# EAGLE library part FRDM (library lib_stankus)
FRDM
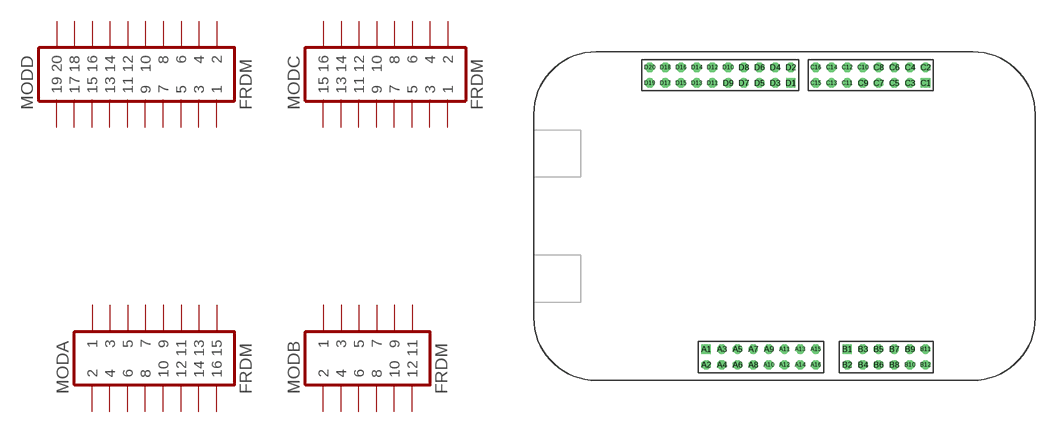
[diagram p111: symbol with the pads of FRDM; footprint FRDM]

Designator prefix MOD; gates A=FRDM_A B=FRDM_B C=FRDM_C D=FRDM_D

## FRDM  [FRDM]
A1  A:1  pas
A2  A:2  pas
A3  A:3  pas
A4  A:4  pas
A5  A:5  pas
A6  A:6  pas
A7  A:7  pas
A8  A:8  pas
A9  A:9  pas
A10  A:10  pas
A11  A:11  pas
A12  A:12  pas
A13  A:13  pas
A14  A:14  pas
A15  A:15  pas
A16  A:16  pas
B1  B:1  pas
B2  B:2  pas
B3  B:3  pas
B4  B:4  pas
B5  B:5  pas
B6  B:6  pas
B7  B:7  pas
B8  B:8  pas
B9  B:9  pas
B10  B:10  pas
B11  B:11  pas
B12  B:12  pas
C1  C:1  pas
C2  C:2  pas
C3  C:3  pas
C4  C:4  pas
C5  C:5  pas
C6  C:6  pas
C7  C:7  pas
C8  C:8  pas
C9  C:9  pas
C10  C:10  pas
C11  C:11  pas
C12  C:12  pas
C13  C:13  pas
C14  C:14  pas
C15  C:15  pas
C16  C:16  pas
D1  D:1  pas
D2  D:2  pas
D3  D:3  pas
D4  D:4  pas
D5  D:5  pas
D6  D:6  pas
D7  D:7  pas
D8  D:8  pas
D9  D:9  pas
D10  D:10  pas
D11  D:11  pas
D12  D:12  pas
D13  D:13  pas
D14  D:14  pas
D15  D:15  pas
D16  D:16  pas
D17  D:17  pas
D18  D:18  pas
D19  D:19  pas
D20  D:20  pas

## Footprint FRDM (pad centres in mm)
FRDM
drill 1 square: A1 -17.78,-21.59; B1 5.08,-21.59; C1 17.78,21.59; D1 -4.064,21.59
drill 1 octagon: A2 -17.78,-24.13; A3 -15.24,-21.59; A4 -15.24,-24.13; A5 -12.7,-21.59; A6 -12.7,-24.13; A7 -10.16,-21.59; A8 -10.16,-24.13; A9 -7.62,-21.59; A10 -7.62,-24.13; A11 -5.08,-21.59; A12 -5.08,-24.13; A13 -2.54,-21.59; A14 -2.54,-24.13; A15 0,-21.59; A16 0,-24.13; B2 5.08,-24.13; B3 7.62,-21.59; B4 7.62,-24.13; B5 10.16,-21.59; B6 10.16,-24.13; B7 12.7,-21.59; B8 12.7,-24.13; B9 15.24,-21.59; B10 15.24,-24.13; B11 17.78,-21.59; B12 17.78,-24.13; C2 17.78,24.13; C3 15.24,21.59; C4 15.24,24.13; C5 12.7,21.59; C6 12.7,24.13; C7 10.16,21.59; C8 10.16,24.13; C9 7.62,21.59; C10 7.62,24.13; C11 5.08,21.59; C12 5.08,24.13; C13 2.54,21.59; C14 2.54,24.13; C15 0,21.59; C16 0,24.13; D2 -4.064,24.13; D3 -6.604,21.59; D4 -6.604,24.13; D5 -9.144,21.59; D6 -9.144,24.13; D7 -11.684,21.59; D8 -11.684,24.13; D9 -14.224,21.59; D10 -14.224,24.13; D11 -16.764,21.59; D12 -16.764,24.13; D13 -19.304,21.59; D14 -19.304,24.13; D15 -21.844,21.59; D16 -21.844,24.13; D17 -24.384,21.59; D18 -24.384,24.13; D19 -26.924,21.59; D20 -26.924,24.13